# Altium schematic symbol library FT2232HL.SchLib: 1 symbol
Pins are listed as number, name and electrical type; pins without a type are passive.

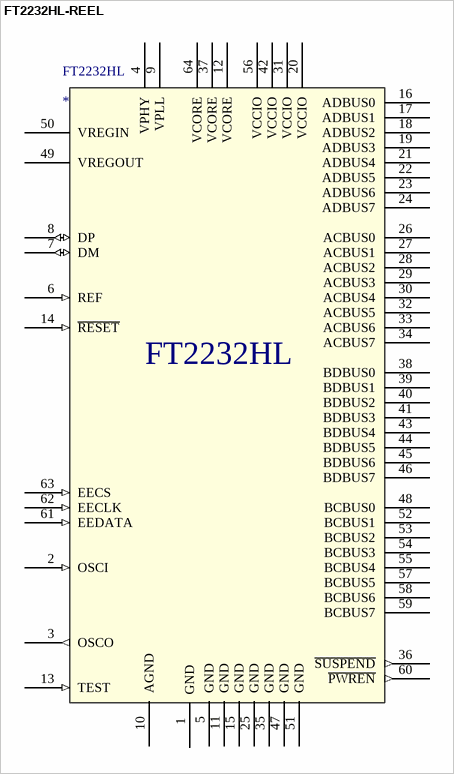
[diagram p0: symbol FT2232HL-REEL]

## FT2232HL-REEL
designator FT2232HL
IC USB HS DUAL UART/FIFO 64-LQFP; Manufacturer: FTDI, Future Technology Devices International Ltd; Manufacturer Part Number: FT2232HL-REEL; Detailed_Description: USB Bridge, USB to UART,FIFO USB 2.0 UART Interface 64-LQFP (10x10); Product Category:: USB Interface IC; Mounting Style:: SMD/SMT; Package/Case:: LQFP-64; Type:: Bridge, USB to UART/FIFO; Standard:: USB 2.0; Data Rate:: 480 Mb/s; Operating Supply Current:: 70 mA; Operating Supply Voltage:: 1.8 V, 3.3 V; Unit Weight:: 340 mg; Series: USBmadeEZ-FIFO, FT-X, X-Chip; Mouser No:: 895-FT2232HL; Minimum Operating Temperature:: - 40 C; Created By: Mohamed Gueni; Date Created: 05/02/2019; Maximum Operating Temperature:: + 85 C; Datasheets: www.ftdichip.com/Support/Documents/AppNotes/AN_116_FTDI%20Devices%20Tape%20and%20Reel%20Dimensions.pdf
footprint TSQFP50P1200X1200X160-64N (TSQFP, 64-Leads, Body 10.00x20.00mm, Pitch 0.50mm, IPC Medium Density)
pins: 1 GND (power), 2 OSCI (in), 3 OSCO (out), 4 VPHY (power), 5 GND (power), 6 REF (in), 7 DM (io), 8 DP (io), 9 VPLL (power), 10 AGND (power), 11 GND (power), 12 VCORE (power), 13 TEST (in), 14 ~{RESET} (in), 15 GND (power), 16 ADBUS0, 17 ADBUS1, 18 ADBUS2, 19 ADBUS3, 20 VCCIO (power), 21 ADBUS4, 22 ADBUS5, 23 ADBUS6, 24 ADBUS7, 25 GND (power), 26 ACBUS0, 27 ACBUS1, 28 ACBUS2, 29 ACBUS3, 30 ACBUS4, 31 VCCIO (power), 32 ACBUS5, 33 ACBUS6, 34 ACBUS7, 35 GND (power), 36 ~{SUSPEND} (out), 37 VCORE (power), 38 BDBUS0, 39 BDBUS1, 40 BDBUS2, 41 BDBUS3, 42 VCCIO (power), 43 BDBUS4, 44 BDBUS5, 45 BDBUS6, 46 BDBUS7, 47 GND (power), 48 BCBUS0, 49 VREGOUT (power), 50 VREGIN (power), 51 GND (power), 52 BCBUS1, 53 BCBUS2, 54 BCBUS3, 55 BCBUS4, 56 VCCIO (power), 57 BCBUS5, 58 BCBUS6, 59 BCBUS7, 60 ~{PWREN} (out), 61 EEDATA (in), 62 EECLK (in), 63 EECS (in), 64 VCORE (power)